# Altium schematic symbol library Connectors.SchLib: 3 symbols
Pins are listed as number, name and electrical type; pins without a type are passive.

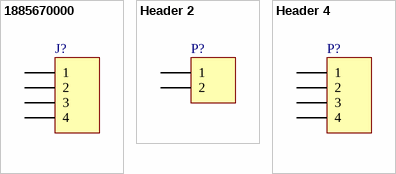
[diagram p0: symbols 1885670000 to Header 4]

## 1885670000
designator J?
TERM BLOCK 4POS 45DEG 3.5MM PCB; Part Number: 1885670000; Voltage: 300V; Current: 12A; 1k Price: 0.85073; ComponentLink1Description: Digikey; ComponentLink1URL: https://www.digikey.com/product-detail/en/1885670000/281-2811-ND/2410728?utm_campaign=buynow&WT.z_cid=ref_octopart_dkc_buynow&utm_medium=aggregator&curr=usd&site=us&utm_source=octopart; ComponentLink2Description: Datasheet; ComponentLink2URL: https://media.digikey.com/pdf/Data%20Sheets/Weidmuller%20PDFs/1885670000.pdf; Power: *; Value: *
footprint 1885670000 (TERM BLOCK 4POS 45DEG 3.5MM PCB)
pins: 1, 2, 3, 4

## Header 2
designator P?
Header, 2-Pin; LatestRevisionDate: 17-Jul-2002; LatestRevisionNote: Re-released for DXP Platform.; Publisher: Altium Limited
footprint HDR1X2 (Connector; Header; 2 Position)
signal-integrity model Connector
pins: 1, 2

## Header 4
designator P?
Header, 4-Pin; LatestRevisionDate: 17-Jul-2002; LatestRevisionNote: Re-released for DXP Platform.; Publisher: Altium Limited
footprint HDR1X4 (Connector; Header; 4 Position)
signal-integrity model Connector
pins: 1, 2, 3, 4